# Altium schematic symbol library Orient.SchLib: 98 symbols (part 2 of 5)
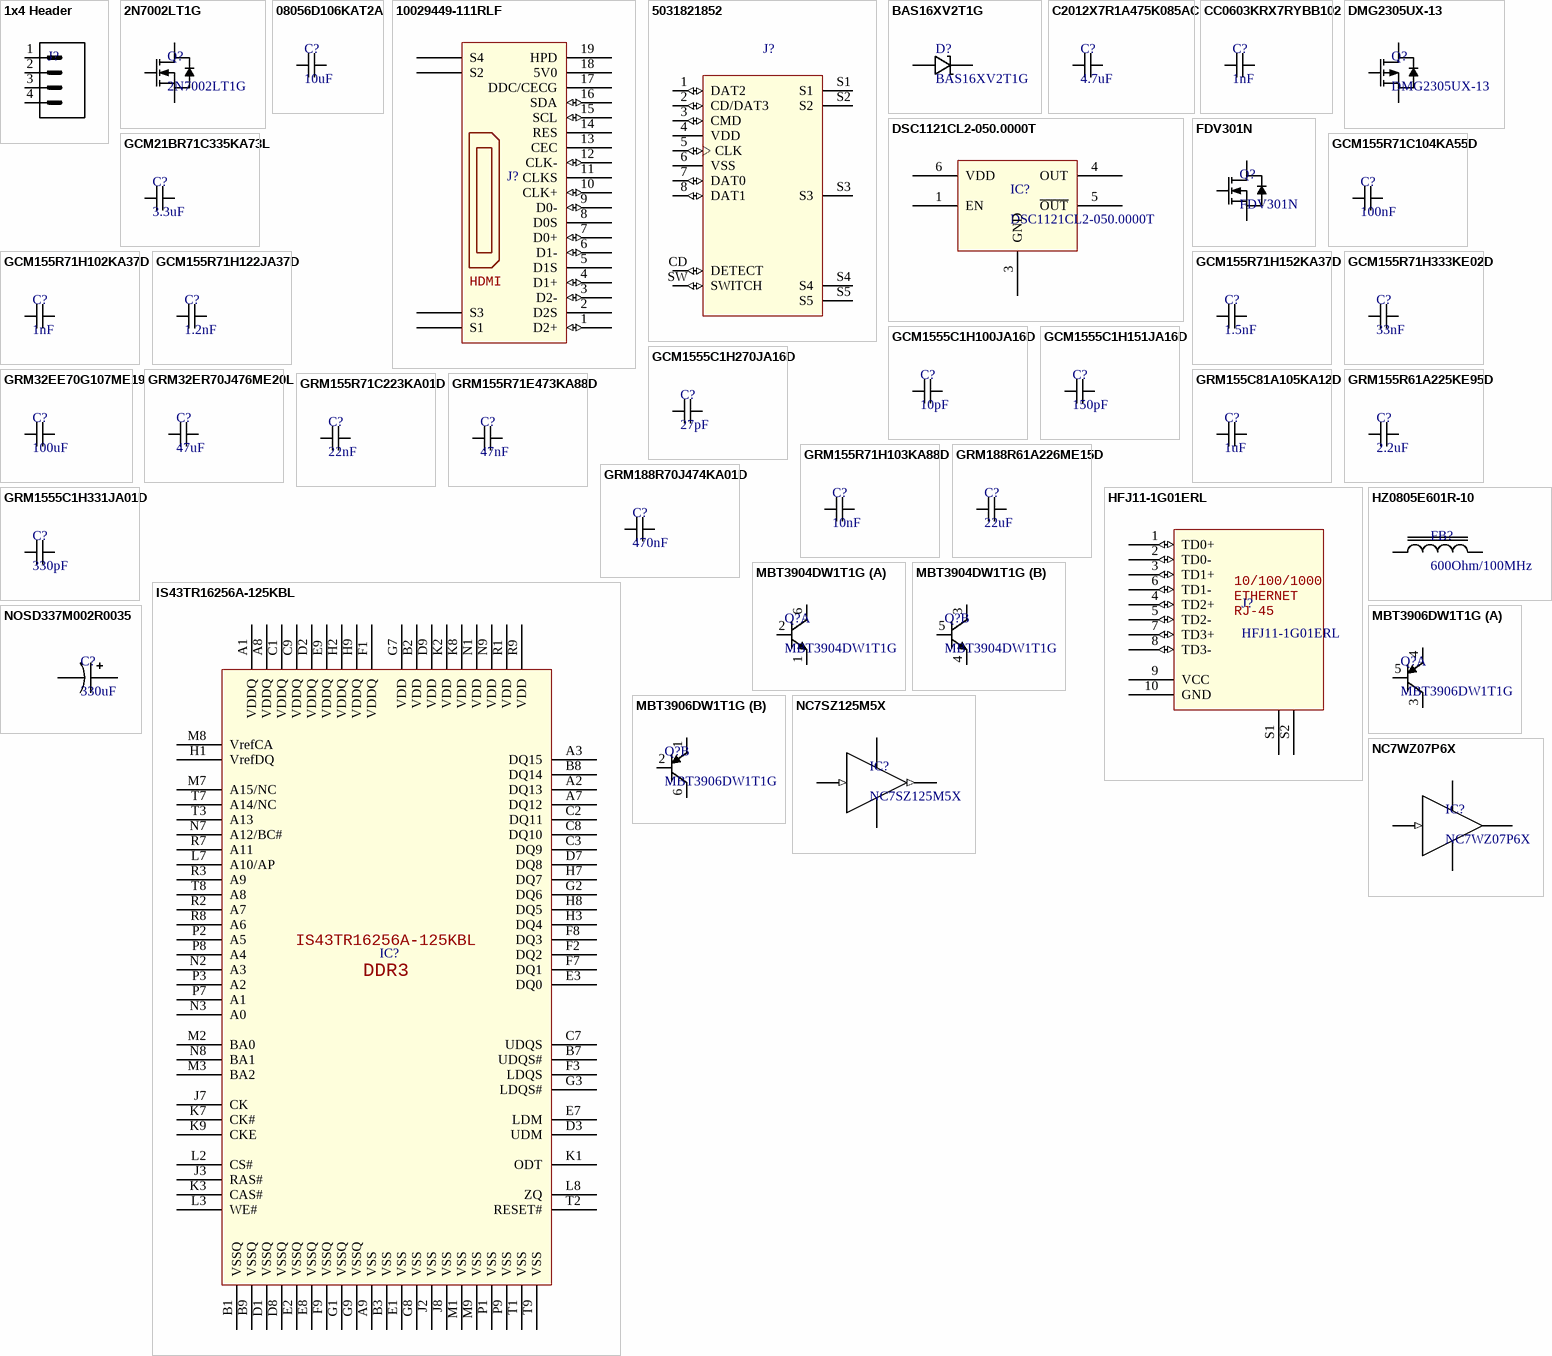
[diagram p4: symbols 1x4 Header to NOSD337M002R0035]

## GRM155R71H103KA88D
designator C?, comment 10nF
MLCC 10nF 0402 SMD; Manufacturer: Murata; Manufacturer Part Number: GRM155R71H103KA88D; Material: Ceramic; Tolerance: 10%; Voltage Rating: 50V; Dielectric: X7R; Voltage: 25V; Supplier 1: Digi-Key; Stock 1: 7384657; Pricing 1: 1=0.10000, 10=0.03800, 100=0.01690, 500=0.01208, 1000=0.00949, 2500=0.00862, 5000=0.00794 (USD); RoHS: Yes; Mount: Surface Mount; Case/Package: 0402; Number of Pins: 2; Case Code (Metric): 1005; Case Code (Imperial): 0402; Min Operating Temperature: -55°C; Max Operating Temperature: 125°C; Packaging: Tape and Reel; Package Quantity: 1; Termination: SMD/SMT; Capacitance: 10nF; Voltage Rating (DC): 50V; Length: 1mm; Height: 0.5mm; Width: 0.02inch; Thickness: 0.022inch; Depth: 0.5mm; Radiation Hardening: No; REACH SVHC: No SVHC; Lead Free: Lead Free; ComponentLink1URL: https://datasheet.ciiva.com/129/product-129810.pdf?src-supplier=Digi-Key; ComponentLink1Description: https://datasheet.ciiva.com/129/product-129810.pdf?src-supplier=Digi-Key; ComponentLink2URL: https://datasheet.ciiva.com/19476/1856433-19476546.pdf?src-supplier=Jameco; ComponentLink2Description: https://datasheet.ciiva.com/19476/1856433-19476546.pdf?src-supplier=Jameco; ComponentLink3URL: https://datasheet.ciiva.com/11786/0900766b80ef921d-11786340.pdf?src-supplier=RSComponents; ComponentLink3Description: https://datasheet.ciiva.com/11786/0900766b80ef921d-11786340.pdf?src-supplier=RSComponents; ComponentLink4URL: https://datasheet.ciiva.com/18100/getdatasheetpartid-27434-18100660.pdf?src-supplier=Verical; ComponentLink4Description: https://datasheet.ciiva.com/18100/getdatasheetpartid-27434-18100660.pdf?src-supplier=Verical; ComponentLink5URL: https://datasheet.ciiva.com/22698/1747449-22698420.pdf?src-supplier=Element14; ComponentLink5Description: https://datasheet.ciiva.com/22698/1747449-22698420.pdf?src-supplier=Element14; ComponentLink6URL: https://datasheet.ciiva.com/29199/454225-da-01-en-vs-kondensator-0402-29199740.pdf?src-supplier=Conrad; ComponentLink6Description: https://datasheet.ciiva.com/29199/454225-da-01-en-vs-kondensator-0402-29199740.pdf?src-supplier=Conrad; ComponentLink7URL: https://datasheet.ciiva.com/129/grm155r71h103ka88-01-129811.pdf?src-supplier=Digi-Key; ComponentLink7Description: https://datasheet.ciiva.com/129/grm155r71h103ka88-01-129811.pdf?src-supplier=Digi-Key; ComponentLink8URL: https://datasheet.ciiva.com/129/grm155r71h103ka88-01-129812.pdf?src-supplier=Digi-Key; ComponentLink8Description: https://datasheet.ciiva.com/129/grm155r71h103ka88-01-129812.pdf?src-supplier=Digi-Key; ComponentLink9URL: https://datasheet.ciiva.com/16495/product-16495290.pdf?src-supplier=Future+Electronics; ComponentLink9Description: https://datasheet.ciiva.com/16495/product-16495290.pdf?src-supplier=Future+Electronics; ComponentLink10URL: https://datasheet.ciiva.com/5410/product-5410990.pdf?src-supplier=Mouser; ComponentLink10Description: https://datasheet.ciiva.com/5410/product-5410990.pdf?src-supplier=Mouser
footprint CAP0402 (Chip Capacitor, 2-Leads, Body 1.00x0.50mm, IPC Medium Density)
pins: 1, 2

## GRM188R61A226ME15D
designator C?, comment 22uF
MLCC 22uF 0603 SMD; Manufacturer: Murata; Manufacturer Part Number: GRM188R61A226ME15D; Material: Ceramic; Tolerance: 20%; Voltage Rating: 10V; Dielectric: X5R; Supplier 1: Digi-Key; Stock 1: 884977; Pricing 1: 1=0.31000, 10=0.21500, 100=0.12160, 500=0.08584, 1000=0.07512 (USD); RoHS: Yes; Mount: Surface Mount; Case/Package: 0603; Weight: 0.000222oz; Case Code (Metric): 1608; Case Code (Imperial): 0603; Min Operating Temperature: -55°C; Max Operating Temperature: 85°C; Capacitance: 22uF; Packaging: Tape and Reel; Termination: SMD/SMT; Voltage Rating (DC): 10V; Package Quantity: 4000; Length: 1.6mm; Height: 0.8mm; Width: 0.8mm; Thickness: 0.039inch; Depth: 0.8mm; REACH SVHC: No SVHC; Lead Free: Lead Free; ComponentLink1URL: https://datasheet.ciiva.com/46444/1769893-46444975.pdf?src-supplier=Element14; ComponentLink1Description: https://datasheet.ciiva.com/46444/1769893-46444975.pdf?src-supplier=Element14
footprint CAP0603 (Chip Capacitor, 2-Leads, Body 1.60x0.80mm, IPC Medium Density)
pins: 1, 2

## GRM188R70J474KA01D
designator C?, comment 470nF
MLCC 470nF 0603 SMD; Manufacturer: Murata; Manufacturer Part Number: GRM188R70J474KA01D; Voltage Rating: 6.3V; Tolerance: 10%; Dielectric: X7R; Supplier 1: Digi-Key; Stock 1: 92537; Pricing 1: 1=0.17000, 10=0.11700, 100=0.05940, 500=0.04066, 1000=0.03597 (USD); RoHS: Yes; Mount: Surface Mount; Case/Package: 0603; Case Code (Metric): 1608; Case Code (Imperial): 0603; Min Operating Temperature: -55°C; Max Operating Temperature: 125°C; Package Quantity: 4000; Capacitance: 470nF; Packaging: Tape and Reel; Voltage Rating (DC): 6.3V; Termination: SMD/SMT; Length: 1.6mm; Height: 0.8mm; Width: 0.031inch; Thickness: 0.035inch; Depth: 0.8mm; Radiation Hardening: No; Lead Free: Lead Free; ComponentLink1URL: https://datasheet.ciiva.com/6264/product-6264161.pdf?src-supplier=Digi-Key; ComponentLink1Description: https://datasheet.ciiva.com/6264/product-6264161.pdf?src-supplier=Digi-Key; ComponentLink2URL: https://datasheet.ciiva.com/11673/product-11673478.pdf?src-supplier=Avnet; ComponentLink2Description: https://datasheet.ciiva.com/11673/product-11673478.pdf?src-supplier=Avnet; ComponentLink3URL: https://datasheet.ciiva.com/6264/partnumbering-e-01-6264159.pdf?src-supplier=Digi-Key; ComponentLink3Description: https://datasheet.ciiva.com/6264/partnumbering-e-01-6264159.pdf?src-supplier=Digi-Key
footprint CAP0603 (Chip Capacitor, 2-Leads, Body 1.60x0.80mm, IPC Medium Density); pin to pad 2>none
pins: 1, 2

## GRM1555C1H331JA01D
designator C?, comment 330pF
MLCC 330pF 0402 SMD; Manufacturer: Murata; Manufacturer Part Number: GRM1555C1H331JA01D; Material: Ceramic; Tolerance: 5%; Dielectric: C0G; Voltage Rating: 50V; Insulation Resistance: 10GR; Temperature Coefficient: 30ppm/°C; Supplier 1: Digi-Key; Stock 1: 1814517; Pricing 1: 1=0.10000, 10=0.07400, 100=0.03500, 500=0.02456, 1000=0.02033, 2500=0.01892, 5000=0.01731 (USD); RoHS: Yes; Mount: Surface Mount; Case/Package: 0402; Number of Pins: 2; Case Code (Metric): 1005; Case Code (Imperial): 0402; Min Operating Temperature: -55°C; Max Operating Temperature: 125°C; Capacitance: 330pF; Package Quantity: 1; Packaging: Tape and Reel; Voltage Rating (DC): 50V; Termination: SMD/SMT; Voltage: 50V; Length: 1mm; Height: 0.5mm; Width: 0.5mm; Thickness: 0.022inch; Depth: 0.5mm; Radiation Hardening: No; REACH SVHC: No SVHC; Lead Free: Lead Free; ComponentLink1URL: https://datasheet.ciiva.com/132/product-132208.pdf?src-supplier=Digi-Key; ComponentLink1Description: https://datasheet.ciiva.com/132/product-132208.pdf?src-supplier=Digi-Key; ComponentLink2URL: https://datasheet.ciiva.com/11787/0900766b807a1cab-11787392.pdf?src-supplier=RSComponents; ComponentLink2Description: https://datasheet.ciiva.com/11787/0900766b807a1cab-11787392.pdf?src-supplier=RSComponents; ComponentLink3URL: https://datasheet.ciiva.com/18184/getdatasheetpartid-153044-18184337.pdf?src-supplier=Verical; ComponentLink3Description: https://datasheet.ciiva.com/18184/getdatasheetpartid-153044-18184337.pdf?src-supplier=Verical; ComponentLink4URL: https://datasheet.ciiva.com/27054/1856089-27054283.pdf?src-supplier=Jameco; ComponentLink4Description: https://datasheet.ciiva.com/27054/1856089-27054283.pdf?src-supplier=Jameco; ComponentLink5URL: https://datasheet.ciiva.com/29199/453809-da-01-en-vs-kondensator-0402-29199950.pdf?src-supplier=Conrad; ComponentLink5Description: https://datasheet.ciiva.com/29199/453809-da-01-en-vs-kondensator-0402-29199950.pdf?src-supplier=Conrad; ComponentLink6URL: https://datasheet.ciiva.com/14116/grmseries-tc-hitype-eng-14116871.pdf?src-supplier=Distrelec; ComponentLink6Description: https://datasheet.ciiva.com/14116/grmseries-tc-hitype-eng-14116871.pdf?src-supplier=Distrelec; ComponentLink7URL: https://datasheet.ciiva.com/7828/4360-7828860.pdf?src-supplier=Element14; ComponentLink7Description: https://datasheet.ciiva.com/7828/4360-7828860.pdf?src-supplier=Element14; ComponentLink8URL: https://datasheet.ciiva.com/7828/4360-7828861.pdf?src-supplier=Element14; ComponentLink8Description: https://datasheet.ciiva.com/7828/4360-7828861.pdf?src-supplier=Element14; ComponentLink9URL: https://datasheet.ciiva.com/132/partnumbering-e-01-132206.pdf?src-supplier=Digi-Key; ComponentLink9Description: https://datasheet.ciiva.com/132/partnumbering-e-01-132206.pdf?src-supplier=Digi-Key; ComponentLink10URL: https://datasheet.ciiva.com/132/partnumbering-e-01-132207.pdf?src-supplier=Digi-Key; ComponentLink10Description: https://datasheet.ciiva.com/132/partnumbering-e-01-132207.pdf?src-supplier=Digi-Key
footprint CAP0402 (Chip Capacitor, 2-Leads, Body 1.00x0.50mm, IPC Medium Density)
pins: 1, 2

## HFJ11-1G01ERL
designator J?
Ethernet Jack; Manufacturer: HALO; Number of Contacts: 8; Number of Ports: 1; Gender: Female; Pitch: 2.54mm; Supplier 1: Avnet; Manufacturer Part Number: HFJ11-1G01ERL; Stock 1: 332; Pricing 1: 1=3.29546, 10=3.24930, 25=3.20442, 50=3.16076, 100=3.06878 (USD); RoHS: Yes; Mount: Through Hole; Case/Package: Module; Min Operating Temperature: 0°C; Max Operating Temperature: 70°C; Termination: Solder; Orientation: Right Angle; Packaging: Rail/Tube; Number of Positions Loaded: 8; Length: 15.88mm; Width: 15.88mm; Depth: 21.59mm; Radiation Hardening: No; Lead Free: Lead Free; ComponentLink1URL: https://datasheet.ciiva.com/11767/0900766b812ae499-11767976.pdf?src-supplier=RSComponents; ComponentLink1Description: https://datasheet.ciiva.com/11767/0900766b812ae499-11767976.pdf?src-supplier=RSComponents; ComponentLink2URL: https://datasheet.ciiva.com/16649/fastjack-gigabit-16649403.pdf?src-supplier=Avnet+Europe; ComponentLink2Description: https://datasheet.ciiva.com/16649/fastjack-gigabit-16649403.pdf?src-supplier=Avnet+Europe; ComponentLink3URL: https://datasheet.ciiva.com/3139/fastjack-gigabit-3139132.pdf?src-supplier=Avnet; ComponentLink3Description: https://datasheet.ciiva.com/3139/fastjack-gigabit-3139132.pdf?src-supplier=Avnet; ComponentLink4URL: https://datasheet.ciiva.com/16287/fastjack-gigabit-16287901.pdf?src-supplier=Future+Electronics; ComponentLink4Description: https://datasheet.ciiva.com/16287/fastjack-gigabit-16287901.pdf?src-supplier=Future+Electronics
footprint HFJ11-1G01ERL
pins: 1 TD0+ (io), 2 TD0- (io), 3 TD1+ (io), 4 TD2+ (io), 5 TD2- (io), 6 TD1- (io), 7 TD3+ (io), 8 TD3- (io), 9 VCC, 10 GND, S1 SHD1, S2 SHD2
text: 10/100/1000; ETHERNET; RJ-45

## HZ0805E601R-10
designator FB?, comment 600Ohm/100MHz
Ferrite Bead 600Ohm/100MHz 0805 SMD; Manufacturer: Laird; Manufacturer Part Number: HZ0805E601R-10; Current Rating: 500mA; Impedance: 600R; Number of Lines: 1; DC Resistance (DCR): 300mR; Test Frequency: 100MHz; Supplier 1: Digi-Key; Stock 1: 4500868; Pricing 1: 1=0.10000, 10=0.04700, 25=0.04160, 50=0.03800, 100=0.03420, 250=0.02504, 500=0.01822, 1000=0.01784 (USD); RoHS: Yes; Mount: Surface Mount; Case/Package: 0805; Weight: 0.00392oz; Case Code (Metric): 2012; Case Code (Imperial): 0805; Material: Ferrite; Contact Plating: Tin,Matte; Core Material: Ferrite; Min Operating Temperature: -40°C; Max Operating Temperature: 125°C; Package Quantity: 1; Packaging: Tape and Reel; Max Current Rating: 500mA; Max DC Current: 500mA; Termination: SMD/SMT; Frequency: 100MHz; Length: 2mm; Height: 1.25mm; Width: 0.049inch; Depth: 1.45mm; REACH SVHC: Unknown; Lead Free: Lead Free; ComponentLink1URL: https://datasheet.ciiva.com/22622/1685710-22622833.pdf?src-supplier=Element14; ComponentLink1Description: https://datasheet.ciiva.com/22622/1685710-22622833.pdf?src-supplier=Element14; ComponentLink2URL: https://datasheet.ciiva.com/1013/hz0805e601r-10-1013170.pdf?src-supplier=Digi-Key; ComponentLink2Description: https://datasheet.ciiva.com/1013/hz0805e601r-10-1013170.pdf?src-supplier=Digi-Key; ComponentLink3URL: https://datasheet.ciiva.com/8512/hz0805e601r-10-a-vp-8512772.pdf?src-supplier=Avnet; ComponentLink3Description: https://datasheet.ciiva.com/8512/hz0805e601r-10-a-vp-8512772.pdf?src-supplier=Avnet; ComponentLink4URL: https://datasheet.ciiva.com/16714/70065439-16714006.pdf?src-supplier=Allied+Electronics; ComponentLink4Description: https://datasheet.ciiva.com/16714/70065439-16714006.pdf?src-supplier=Allied+Electronics
footprint FB0805 (Chip, 2-Leads, Body 2.2x1.45mm)
pins: 1, 2

## IS43TR16256A-125KBL
designator IC?
DRAM 4G, 1.5V, 1600Mhz DDR3 SDRAM; Manufacturer: ISSI; Manufacturer Part Number: IS43TR16256A-125KBL; Max Supply Voltage: 1.575V; Min Supply Voltage: 1.425V; Data Bus Width: 16b; Memory Size: 4Gb; Memory Type: RAM,DDR3 SDRAM; Frequency: 800MHz; Interface: Parallel; Max Supply Current: 290mA; Address Bus Width: 18b; Access Time: 20ns; Nominal Supply Current: 230mA; Supplier 1: Mouser; Stock 1: 380; Pricing 1: 1=8.69000, 10=8.00000, 25=7.81000, 50=7.81000, 100=7.00000, 250=6.79000, 500=6.46000, 1000=6.46000, 10000=6.46000 (USD); RoHS: Yes; Mount: Surface Mount; Case/Package: TFBGA; Number of Pins: 96; Min Operating Temperature: 0°C; Max Operating Temperature: 95°C; Packaging: Tray; Package Quantity: 190; Max Frequency: 800MHz; Operating Supply Voltage: 1.5V; Density: 4Gb; ComponentLink2URL: http://www.mouser.com/ds/2/198/43-46TR16256A-85120AL-268426.pdf?src-supplier=Mouser; ComponentLink2Description: http://www.mouser.com/ds/2/198/43-46TR16256A-85120AL-268426.pdf?src-supplier=Mouser; ComponentLink3URL: http://www.issi.com/WW/pdf/43-46TR16256A-85120AL.pdf?src-supplier=Digi-Key; ComponentLink3Description: http://www.issi.com/WW/pdf/43-46TR16256A-85120AL.pdf?src-supplier=Digi-Key
footprint BGA96 (BGA, 96-Leads, Body 9.00x13.00mmx1.20mm, Pitch 0.80mm)
pins: A1 VDDQ, A2 DQ13, A3 DQ15, A7 DQ12, A8 VDDQ, A9 VSS, B1 VSSQ, B2 VDD, B3 VSS, B7 UDQS#, B8 DQ14, B9 VSSQ, C1 VDDQ, C2 DQ11, C3 DQ9, C7 UDQS, C8 DQ10, C9 VDDQ, D1 VSSQ, D2 VDDQ, D3 UDM, D7 DQ8, D8 VSSQ, D9 VDD, E1 VSS, E2 VSSQ, E3 DQ0, E7 LDM, E8 VSSQ, E9 VDDQ, F1 VDDQ, F2 DQ2, F3 LDQS, F7 DQ1, F8 DQ3, F9 VSSQ, G1 VSSQ, G2 DQ6, G3 LDQS#, G7 VDD, G8 VSS, G9 VSSQ, H1 VrefDQ, H2 VDDQ, H3 DQ4, H7 DQ7, H8 DQ5, H9 VDDQ, J2 VSS, J3 RAS#, J7 CK, J8 VSS, K1 ODT, K2 VDD, K3 CAS#, K7 CK#, K8 VDD, K9 CKE, L2 CS#, L3 WE#, L7 A10/AP, L8 ZQ, M1 VSS, M2 BA0, M3 BA2, M7 A15/NC, M8 VrefCA, M9 VSS, N1 VDD, N2 A3, N3 A0, N7 A12/BC#, N8 BA1, N9 VDD, P1 VSS, P2 A5, P3 A2, P7 A1, P8 A4, P9 VSS, R1 VDD, R2 A7, R3 A9, R7 A11, R8 A6, R9 VDD, T1 VSS, T2 RESET#, T3 A13, T7 A14/NC, T8 A8, T9 VSS
text: DDR3

## MBT3904DW1T1G
designator Q?
Dual BJT NPN Transistor; Manufacturer: On Semiconductor; Packing: Tape and Reel; Polarity: Dual NPN; fT Min (MHz): 300; IC Continuous (A): 0.2; DatasheetVersion: Rev. 9; ComponentLink2Description: Datasheet; Mounting Technology: Surface Mount; PackageReference: SOT-363-6-419B-02_W; RoHS: TRUE; ComponentLink1Description: Manufacturer URL; ComponentLink2URL: http://www.onsemi.com/pub_link/Collateral/MBT3904DW1T1-D.PDF; PackageVersion: Rev. W, 01/2006; PartNumber: MBT3904DW1T1G; ComponentLink1URL: http://www.onsemi.com/; ComponentLink3URL: http://www.onsemi.com/pub_link/Collateral/NTJD4001N-D.PDF; ComponentLink3Description: Package Specification; PackageDescription: 6-Pin Small Outline Transistor, Body 2 x 1.25 mm, Pitch 0.65 mm
footprint SOT-363 (SOT23, 6-Leads, Body 2.00x2.10mm, Pitch 0.65mm, IPC Medium Density)
part A pins: 1 E, 2 B, 6 C
part B pins: 3 C, 4 E, 5 B

## MBT3906DW1T1G
designator Q?
Dual BJT PNP Transistor; Manufacturer: On Semiconductor; IC Continuous (A): -0.2; Polarity: Dual PNP; Packing: Tape and Reel; fT Min (MHz): 250; PackageReference: SOT-363-6-419B-02; PackageVersion: Rev. Y, 12/2012; Mounting Technology: Surface Mount; RoHS: TRUE; ComponentLink2URL: http://www.onsemi.com/pub_link/Collateral/MBT3906DW1T1-D.PDF; DatasheetVersion: Rev. 5; ComponentLink3URL: http://www.onsemi.cn/pub_link/Collateral/419B-02.PDF; PartNumber: MBT3906DW1T1G; ComponentLink3Description: Package Specification; ComponentLink2Description: Datasheet; PackageDescription: 6-Pin Small Outline Transistor, Body 2 x 1.25 mm, Pitch 0.65 mm; ComponentLink1URL: http://www.onsemi.com/; ComponentLink1Description: Manufacturer URL
footprint SOT-363 (SOT23, 6-Leads, Body 2.00x2.10mm, Pitch 0.65mm, IPC Medium Density)
part A pins: 3 C, 4 E, 5 B
part B pins: 1 E, 2 B, 6 C

## NC7SZ125M5X
designator IC?
Non-inverting buffer, 3-State; Manufacturer: ON Semiconductor / Fairchild; Max Power Dissipation: 200mW; Max Supply Voltage: 5.5V; Min Supply Voltage: 1.65V; Propagation Delay: 5ns; Logic Function: Buffer,Inverting; Low Level Output Current: 32mA; Number of Input Lines: 1; High Level Output Current: -32mA; Turn-On Delay Time: 5.7ns; Quiescent Current: 2uA; Voltage: 5V; Supplier 1: Digi-Key; Manufacturer Part Number: NC7SZ125M5X; Stock 1: 87014; Pricing 1: 1=0.47000, 10=0.34700, 100=0.19640, 500=0.13008, 1000=0.09973 (USD); RoHS: Yes; Mount: Surface Mount; Case/Package: SOT-23; Number of Pins: 5; Contact Plating: Tin,Matte; Min Operating Temperature: -40°C; Max Operating Temperature: 85°C; Packaging: Tape and Reel; Number of Output Lines: 1; Polarity: Non-Inverting; Package Quantity: 3000; Number of Elements: 1; Number of Channels: 1; Number of Inputs: 1; Number of Outputs: 1; Number of Bits per Element: 1; Number of Bits: 1; Length: 3mm; Height: 1.3mm; Width: 1.7mm; Radiation Hardening: No; REACH SVHC: No SVHC; Lead Free: Lead Free; ComponentLink1URL: https://datasheet.ciiva.com/1832/nc7sz125-1832245.pdf?src-supplier=Digi-Key; ComponentLink1Description: https://datasheet.ciiva.com/1832/nc7sz125-1832245.pdf?src-supplier=Digi-Key; ComponentLink2URL: https://datasheet.ciiva.com/46415/1793263-46415383.pdf?src-supplier=Element14; ComponentLink2Description: https://datasheet.ciiva.com/46415/1793263-46415383.pdf?src-supplier=Element14; ComponentLink3URL: https://datasheet.ciiva.com/28416/1793263-28416537.pdf?src-supplier=Element14; ComponentLink3Description: https://datasheet.ciiva.com/28416/1793263-28416537.pdf?src-supplier=Element14; ComponentLink4URL: https://datasheet.ciiva.com/26096/nc7sz125-26096491.pdf?src-supplier=Avnet+Europe; ComponentLink4Description: https://datasheet.ciiva.com/26096/nc7sz125-26096491.pdf?src-supplier=Avnet+Europe; ComponentLink5URL: https://datasheet.ciiva.com/1832/nc7sz125-1832243.pdf?src-supplier=Digi-Key; ComponentLink5Description: https://datasheet.ciiva.com/1832/nc7sz125-1832243.pdf?src-supplier=Digi-Key; ComponentLink6URL: https://datasheet.ciiva.com/1832/nc7sz125-1832244.pdf?src-supplier=Digi-Key; ComponentLink6Description: https://datasheet.ciiva.com/1832/nc7sz125-1832244.pdf?src-supplier=Digi-Key; ComponentLink7URL: https://datasheet.ciiva.com/8260/nc7sz125-8260055.pdf?src-supplier=Avnet; ComponentLink7Description: https://datasheet.ciiva.com/8260/nc7sz125-8260055.pdf?src-supplier=Avnet
pins: 2 GND, 3 (in), 4 (out), 5 VCC

## NC7WZ07P6X
designator IC?
Non-inverting buffer, open drain; Manufacturer: ON Semiconductor / Fairchild; Logic Function: Buffer,Inverting; Min Supply Voltage: 1.65V; Max Supply Voltage: 5.5V; Max Power Dissipation: 180mW; Low Level Output Current: 32mA; Number of Input Lines: 2; Propagation Delay: 12.6ns; Number of Bits per Element: 1; Quiescent Current: 1uA; Turn-On Delay Time: 11.5ns; Max Supply Current: 24mA; Supplier 1: Digi-Key; Manufacturer Part Number: NC7WZ07P6X; Stock 1: 111727; Pricing 1: 1=0.37000, 10=0.27800, 100=0.15770, 500=0.10444, 1000=0.08006 (USD); RoHS: Yes; Mount: Surface Mount; Case/Package: SC; Number of Pins: 6; Weight: 0.028g; Min Operating Temperature: -40°C; Max Operating Temperature: 85°C; Packaging: Tape and Reel; Number of Output Lines: 2; Polarity: Non-Inverting; Number of Elements: 2; Number of Channels: 2; Number of Inputs: 2; Number of Outputs: 2; Package Quantity: 1; High Level Output Current: 32mA; Termination: SMD/SMT; Number of Circuits: 2; Number of Bits: 2; Length: 2mm; Height: 1mm; Width: 1.25mm; Radiation Hardening: No; REACH SVHC: No SVHC; Lead Free: Lead Free; ComponentLink1URL: https://datasheet.ciiva.com/15094/getdatasheetpartid-110382-15094696.pdf?src-supplier=Verical; ComponentLink1Description: https://datasheet.ciiva.com/15094/getdatasheetpartid-110382-15094696.pdf?src-supplier=Verical; ComponentLink2URL: https://datasheet.ciiva.com/34303/1925793-34303258.pdf?src-supplier=Jameco; ComponentLink2Description: https://datasheet.ciiva.com/34303/1925793-34303258.pdf?src-supplier=Jameco; ComponentLink3URL: https://datasheet.ciiva.com/7971/1725667-7971034.pdf?src-supplier=Element14; ComponentLink3Description: https://datasheet.ciiva.com/7971/1725667-7971034.pdf?src-supplier=Element14; ComponentLink4URL: https://datasheet.ciiva.com/1832/nc7wz07-1832235.pdf?src-supplier=Digi-Key; ComponentLink4Description: https://datasheet.ciiva.com/1832/nc7wz07-1832235.pdf?src-supplier=Digi-Key; ComponentLink5URL: https://datasheet.ciiva.com/7971/1725667-7971035.pdf?src-supplier=Element14; ComponentLink5Description: https://datasheet.ciiva.com/7971/1725667-7971035.pdf?src-supplier=Element14; ComponentLink6URL: https://datasheet.ciiva.com/28416/1725667-28416555.pdf?src-supplier=Element14; ComponentLink6Description: https://datasheet.ciiva.com/28416/1725667-28416555.pdf?src-supplier=Element14; ComponentLink7URL: https://datasheet.ciiva.com/1832/nc7wz07-1832236.pdf?src-supplier=Digi-Key; ComponentLink7Description: https://datasheet.ciiva.com/1832/nc7wz07-1832236.pdf?src-supplier=Digi-Key; ComponentLink8URL: https://datasheet.ciiva.com/26248/nc7wz07-26248300.pdf?src-supplier=Avnet+Europe; ComponentLink8Description: https://datasheet.ciiva.com/26248/nc7wz07-26248300.pdf?src-supplier=Avnet+Europe
footprint SC-88 (SOT23, 6-Leads, Body 2.00x2.10mm, Pitch 0.65mm, IPC Medium Density)
pins: 2 GND, 3 (in), 4, 5 VCC

## NOSD337M002R0035
designator C?, comment 330uF
Niobium Oxide Cap 330uF KEMET-D SMD; Manufacturer: Kyocera AVX; Manufacturer Part Number: NOSD337M002R0035; Dielectric Material: Tantalum; Tolerance: 20%; Voltage Rating: 2.5V; ESR (Equivalent Series Resistance): 35mR; Ripple Current: 2.268A; Resistance: 0.035R; Leakage Current: 16.5uA; Dissipation Factor: 6%; Supplier 1: Mouser; Stock 1: 336; Pricing 1: 1=11.56000, 10=11.56000, 50=10.46000, 100=9.15000, 500=3.39000, 1000=3.39000, 10000=3.39000 (USD); RoHS: Yes; Mount: Surface Mount; Case/Package: 2917; Number of Pins: 2; Case Code (Metric): 7343; Case Code (Imperial): 2917; Min Operating Temperature: -55°C; Max Operating Temperature: 125°C; Capacitance: 330uF; Packaging: Tape and Reel; Package Quantity: 500; Termination: SMD/SMT; Voltage Rating (DC): 2.5V; Length: 7.3mm; Height: 3.1mm; Width: 4.3mm; Height - Seated (Max): 0.122inch; Depth: 4.3mm; Radiation Hardening: No; REACH SVHC: No SVHC; ComponentLink1URL: https://datasheet.ciiva.com/1469/84582-1469766.pdf?src-supplier=Farnell; ComponentLink1Description: https://datasheet.ciiva.com/1469/84582-1469766.pdf?src-supplier=Farnell; ComponentLink2URL: https://datasheet.ciiva.com/257/nos-257357.pdf?src-supplier=Digi-Key; ComponentLink2Description: https://datasheet.ciiva.com/257/nos-257357.pdf?src-supplier=Digi-Key; ComponentLink3URL: https://datasheet.ciiva.com/1460/84582-1460413.pdf?src-supplier=Element14; ComponentLink3Description: https://datasheet.ciiva.com/1460/84582-1460413.pdf?src-supplier=Element14; ComponentLink4URL: https://datasheet.ciiva.com/1469/84582-1469767.pdf?src-supplier=Farnell; ComponentLink4Description: https://datasheet.ciiva.com/1469/84582-1469767.pdf?src-supplier=Farnell; ComponentLink5URL: https://datasheet.ciiva.com/1460/84582-1460412.pdf?src-supplier=Element14; ComponentLink5Description: https://datasheet.ciiva.com/1460/84582-1460412.pdf?src-supplier=Element14
footprint KEMET-D (Molded Capacitor, 2-Leads, Body 7.30x4.30mm, IPC Medium Density)
pins: 1, 2

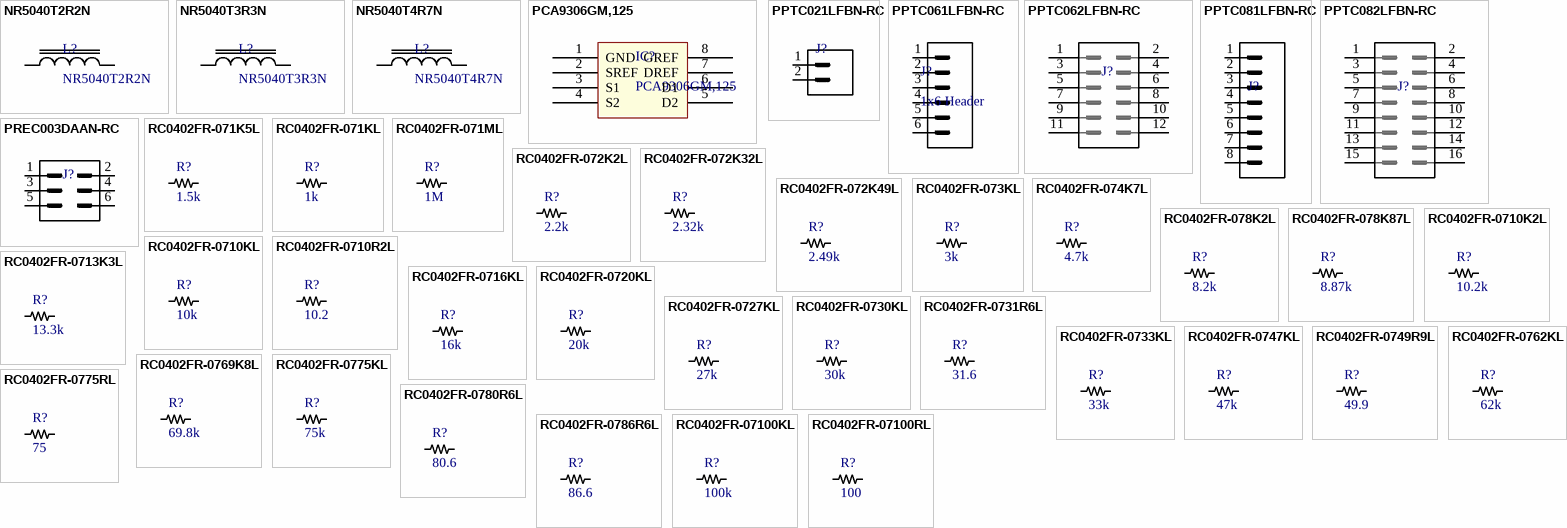
[diagram p1: symbols NR5040T2R2N to RC0402FR-07100RL]

## NR5040T2R2N
designator L?
Inductor 2.2uH; Manufacturer: Taiyo Yuden; Core Material: Ferrite; Self Resonant Frequency: 42MHz; Current Rating: 3.5A; Tolerance: 30%; Shielding: Shielded; DC Resistance (DCR): 28.6mR; Test Frequency: 100kHz; Max DC Current: 4.6A; Supplier 1: Digi-Key; Manufacturer Part Number: NR5040T2R2N; Stock 1: 15064; Pricing 1: 1=0.45000, 10=0.39000, 100=0.27890, 500=0.23426 (USD); RoHS: Yes; Mount: Surface Mount; Case/Package: Nonstandard; Number of Pins: 2; Min Operating Temperature: -25°C; Max Operating Temperature: 120°C; Packaging: Tape and Reel; Package Quantity: 1500; Composition: Wirewound; Inductance: 2.2uH; Termination: SMD/SMT; Inductance Tolerance: 30%; Saturation Current: 4.6A; RMS Current (Irms): 3.5A; Length: 0.193inch; Height: 4mm; Width: 0.193inch; Height - Seated (Max): 0.161inch; Depth: 5.1mm; Radiation Hardening: No; REACH SVHC: Unknown; Halogen Free: Halogen Free; ComponentLink1URL: https://datasheet.ciiva.com/8502/nr5040t2r2n-ss-8502898.pdf?src-supplier=Avnet; ComponentLink1Description: https://datasheet.ciiva.com/8502/nr5040t2r2n-ss-8502898.pdf?src-supplier=Avnet; ComponentLink2URL: https://datasheet.ciiva.com/6689/wound04-e-6689260.pdf?src-supplier=Digi-Key; ComponentLink2Description: https://datasheet.ciiva.com/6689/wound04-e-6689260.pdf?src-supplier=Digi-Key; ComponentLink3URL: https://datasheet.ciiva.com/6689/wound04-e-6689263.pdf?src-supplier=Digi-Key; ComponentLink3Description: https://datasheet.ciiva.com/6689/wound04-e-6689263.pdf?src-supplier=Digi-Key; ComponentLink4URL: https://datasheet.ciiva.com/6689/wound04-e-6689257.pdf?src-supplier=Digi-Key; ComponentLink4Description: https://datasheet.ciiva.com/6689/wound04-e-6689257.pdf?src-supplier=Digi-Key
footprint NR5040 (Precision Wire Wound Inductor, 2-Leads, Body 4.90x4.90mm, IPC Medium Density)
pins: 1, 2

## NR5040T3R3N
designator L?
Inductor 3.3uH; Manufacturer: Taiyo Yuden; Core Material: Ferrite; Self Resonant Frequency: 32MHz; Tolerance: 30%; Current Rating: 3.3A; Saturation Current: 3.8A; Shielding: Shielded; DC Resistance (DCR): 35.1mR; Test Frequency: 100kHz; Supplier 1: Digi-Key; Manufacturer Part Number: NR5040T3R3N; Stock 1: 15388; Pricing 1: 1=0.45000, 10=0.39000, 100=0.27890, 500=0.23426 (USD); RoHS: Yes; Mount: Surface Mount; Case/Package: Nonstandard; Number of Pins: 2; Min Operating Temperature: -25°C; Max Operating Temperature: 120°C; Packaging: Tape and Reel; Inductance: 3.3uH; Package Quantity: 1500; Inductance Tolerance: 30%; Max DC Current: 3.8A; Termination: SMD/SMT; Composition: Wirewound; RMS Current (Irms): 3.3A; Length: 0.193inch; Height: 4mm; Width: 4.9mm; Height - Seated (Max): 0.161inch; Halogen Free: Halogen Free; REACH SVHC: Unknown; ComponentLink1URL: https://datasheet.ciiva.com/1044/wound04-e-1044105.pdf?src-supplier=Digi-Key; ComponentLink1Description: https://datasheet.ciiva.com/1044/wound04-e-1044105.pdf?src-supplier=Digi-Key; ComponentLink2URL: https://datasheet.ciiva.com/1044/wound04-e-1044103.pdf?src-supplier=Digi-Key; ComponentLink2Description: https://datasheet.ciiva.com/1044/wound04-e-1044103.pdf?src-supplier=Digi-Key; ComponentLink3URL: https://datasheet.ciiva.com/1044/wound04-e-1044104.pdf?src-supplier=Digi-Key; ComponentLink3Description: https://datasheet.ciiva.com/1044/wound04-e-1044104.pdf?src-supplier=Digi-Key
footprint NR5040 (Precision Wire Wound Inductor, 2-Leads, Body 4.90x4.90mm, IPC Medium Density)
pins: 1, 2

## NR5040T4R7N
designator L?
Inductor 4.7uH; Manufacturer: Taiyo Yuden; Core Material: Ferrite; Self Resonant Frequency: 28MHz; Inductance Tolerance: 30%; Current Rating: 3.1A; Saturation Current: 3.3A; Shielding: Shielded; DC Resistance (DCR): 37.7mR; Test Frequency: 100kHz; Supplier 1: Digi-Key; Manufacturer Part Number: NR5040T4R7N; Stock 1: 17504; Pricing 1: 1=0.38000, 10=0.34000, 100=0.23410, 500=0.20000 (USD); RoHS: Yes; Mount: Surface Mount; Case/Package: Nonstandard; Number of Pins: 2; Min Operating Temperature: -25°C; Max Operating Temperature: 120°C; Packaging: Tape and Reel; Package Quantity: 1500; Tolerance: 30%; Inductance: 4.7uH; Max DC Current: 3.3A; Termination: SMD/SMT; Composition: Wirewound; RMS Current (Irms): 3.1A; Length: 0.193inch; Height: 4mm; Width: 4.9mm; Height - Seated (Max): 0.161inch; Depth: 5.1mm; Radiation Hardening: No; REACH SVHC: Unknown; Halogen Free: Halogen Free; ComponentLink1URL: https://datasheet.ciiva.com/8502/nr5040t4r7n-ss-8502907.pdf?src-supplier=Avnet; ComponentLink1Description: https://datasheet.ciiva.com/8502/nr5040t4r7n-ss-8502907.pdf?src-supplier=Avnet; ComponentLink2URL: https://datasheet.ciiva.com/4960/wound04-e-4960327.pdf?src-supplier=Mouser; ComponentLink2Description: https://datasheet.ciiva.com/4960/wound04-e-4960327.pdf?src-supplier=Mouser; ComponentLink3URL: https://datasheet.ciiva.com/1044/wound04-e-1044091.pdf?src-supplier=Digi-Key; ComponentLink3Description: https://datasheet.ciiva.com/1044/wound04-e-1044091.pdf?src-supplier=Digi-Key; ComponentLink4URL: https://datasheet.ciiva.com/1044/wound04-e-1044092.pdf?src-supplier=Digi-Key; ComponentLink4Description: https://datasheet.ciiva.com/1044/wound04-e-1044092.pdf?src-supplier=Digi-Key; ComponentLink5URL: https://datasheet.ciiva.com/1044/wound04-e-1044093.pdf?src-supplier=Digi-Key; ComponentLink5Description: https://datasheet.ciiva.com/1044/wound04-e-1044093.pdf?src-supplier=Digi-Key
footprint NR5040 (Precision Wire Wound Inductor, 2-Leads, Body 4.90x4.90mm, IPC Medium Density)
pins: 1, 2

## PCA9306GM,125
designator IC?
Low Voltage Translator, Bidirectional; Manufacturer: NXP Semiconductors; Max Supply Voltage: 5V; Min Supply Voltage: 0uV; Number of Channels: 2; Propagation Delay: 3.3ns; Supplier 1: Digi-Key; Manufacturer Part Number: PCA9306GM,125; Stock 1: 9822; Pricing 1: 1=0.74000, 10=0.65200, 100=0.50010, 500=0.39532, 1000=0.31626 (USD); RoHS: Yes; Mount: Surface Mount; Case/Package: QFN; Number of Pins: 8; Contact Plating: Gold; Min Operating Temperature: -40°C; Max Operating Temperature: 85°C; Packaging: Tape and Reel; Package Quantity: 1; Logic Function: Translator; Number of Bits: 2; Turn-On Delay Time: 3.3ns; Output Type: Voltage; Length: 1.65mm; Height: 0.45mm; Width: 1.65mm; Radiation Hardening: No; Lead Free: Lead Free; ComponentLink1URL: https://datasheet.ciiva.com/1898/pca9306-1898993.pdf?src-supplier=Digi-Key; ComponentLink1Description: https://datasheet.ciiva.com/1898/pca9306-1898993.pdf?src-supplier=Digi-Key; ComponentLink2URL: https://datasheet.ciiva.com/1898/pca9306-1898994.pdf?src-supplier=Digi-Key; ComponentLink2Description: https://datasheet.ciiva.com/1898/pca9306-1898994.pdf?src-supplier=Digi-Key; ComponentLink3URL: https://datasheet.ciiva.com/1898/pca9306-1898995.pdf?src-supplier=Digi-Key; ComponentLink3Description: https://datasheet.ciiva.com/1898/pca9306-1898995.pdf?src-supplier=Digi-Key; ComponentLink4URL: https://datasheet.ciiva.com/16209/pca9306-16209430.pdf?src-supplier=Future+Electronics; ComponentLink4Description: https://datasheet.ciiva.com/16209/pca9306-16209430.pdf?src-supplier=Future+Electronics; ComponentLink5URL: https://datasheet.ciiva.com/8243/pca9306-8243976.pdf?src-supplier=Avnet; ComponentLink5Description: https://datasheet.ciiva.com/8243/pca9306-8243976.pdf?src-supplier=Avnet; ComponentLink6URL: https://datasheet.ciiva.com/16671/pca9306-16671482.pdf?src-supplier=Avnet+Europe; ComponentLink6Description: https://datasheet.ciiva.com/16671/pca9306-16671482.pdf?src-supplier=Avnet+Europe
footprint XQFN8 (QFN, 8-Leads, Body 1.60x1.60mm, Pitch 0.55mm/0.50mm, IPC Medium Density)
pins: 1 GND, 2 SREF, 3 S1, 4 S2, 5 D2, 6 D1, 7 DREF, 8 GREF

## PPTC021LFBN-RC
designator J?, comment 1x2 Header  (value not drawn)
Header Female 1x2 2.54mm; Manufacturer: Sullins; Manufacturer Part Number: PPTC021LFBN-RC; Number of Positions: 2; Connector Type: Header,Socket; Pitch: 0.1inch; Supplier 1: Digi-Key; Stock 1: 29257; Pricing 1: 1=0.32000, 10=0.30600, 100=0.21390, 500=0.18334, 1000=0.15278, 5000=0.13095, 10000=0.12610 (USD); RoHS: Yes; Mount: Through Hole; Color: Black; Contact Plating: Tin; Contact Material: Bronze; Housing Material: Plastic; Package Quantity: 1000; Number of Rows: 1; Packaging: Bulk; Termination: Solder; Length: 5.58mm; Height: 8.5mm; Width: 2.5mm; Lead Free: Lead Free; ComponentLink1URL: https://media.digikey.com/pdf/Data%20Sheets/Sullins%20PDFs/Female_Headers.100_DS.pdf?src-supplier=Digi-Key; ComponentLink1Description: https://media.digikey.com/pdf/Data%20Sheets/Sullins%20PDFs/Female_Headers.100_DS.pdf?src-supplier=Digi-Key; ComponentLink2URL: http://www.sullinscorp.com/catalogs/78_Page80-81_HEADER_.100_2.54mm_FEMALE.pdf?src-supplier=Future+Electronics; ComponentLink2Description: http://www.sullinscorp.com/catalogs/78_Page80-81_HEADER_.100_2.54mm_FEMALE.pdf?src-supplier=Future+Electronics
footprint HEADER_1X2
pins: 1, 2

## PPTC061LFBN-RC
designator J?, comment 1x6 Header
Header Female 1x6 2.54mm; Manufacturer: Sullins; Manufacturer Part Number: PPTC061LFBN-RC; Number of Positions: 6; Connector Type: Header,Socket; Pitch: 0.1inch; Supplier 1: Digi-Key; Stock 1: 13781; Pricing 1: 1=0.52000, 10=0.48300, 100=0.37050, 500=0.32220, 1000=0.26582, 5000=0.23360, 10000=0.23270 (USD); RoHS: Yes; Mount: Through Hole; Color: Black; Contact Plating: Tin; Contact Material: Bronze; Housing Material: Plastic; Package Quantity: 1000; Number of Rows: 1; Packaging: Bulk; Termination: Solder; Length: 15.7mm; Height: 8.5mm; Width: 2.5mm; Lead Free: Lead Free; ComponentLink1URL: https://media.digikey.com/pdf/Data%20Sheets/Sullins%20PDFs/Female_Headers.100_DS.pdf?src-supplier=Digi-Key; ComponentLink1Description: https://media.digikey.com/pdf/Data%20Sheets/Sullins%20PDFs/Female_Headers.100_DS.pdf?src-supplier=Digi-Key; ComponentLink2URL: http://www.sullinscorp.com/catalogs/78_Page80-81_HEADER_.100_2.54mm_FEMALE.pdf?src-supplier=Future+Electronics; ComponentLink2Description: http://www.sullinscorp.com/catalogs/78_Page80-81_HEADER_.100_2.54mm_FEMALE.pdf?src-supplier=Future+Electronics
pins: 1, 2, 3, 4, 5, 6

## PPTC062LFBN-RC
designator J?, comment 2x6 Header  (value not drawn)
Header Female 2x6 2.54mm; Manufacturer: Sullins; Manufacturer Part Number: PPTC062LFBN-RC; Number of Positions: 12; Connector Type: Header,Socket; Pitch: 0.1inch; Supplier 1: Digi-Key; Stock 1: 4618; Pricing 1: 1=0.79000, 10=0.69100, 100=0.59600, 500=0.48762, 1000=0.43344, 5000=0.39130 (USD); RoHS: Yes; Mount: Through Hole; Color: Black; Contact Plating: Tin; Contact Material: Bronze; Housing Material: Plastic; Package Quantity: 1000; Number of Rows: 2; Packaging: Bulk; Termination: Solder; Length: 15.7mm; Height: 8.5mm; Row Spacing: 0.1inch; Width: 5mm; Lead Free: Lead Free; ComponentLink1URL: https://media.digikey.com/pdf/Data%20Sheets/Sullins%20PDFs/Female_Headers.100_DS.pdf?src-supplier=Digi-Key; ComponentLink1Description: https://media.digikey.com/pdf/Data%20Sheets/Sullins%20PDFs/Female_Headers.100_DS.pdf?src-supplier=Digi-Key; ComponentLink2URL: http://www.sullinscorp.com/catalogs/78_Page80-81_HEADER_.100_2.54mm_FEMALE.pdf?src-supplier=Future+Electronics; ComponentLink2Description: http://www.sullinscorp.com/catalogs/78_Page80-81_HEADER_.100_2.54mm_FEMALE.pdf?src-supplier=Future+Electronics
footprint HEADER_2X6
pins: 1, 2, 3, 4, 5, 6, 7, 8, 9, 10, 11, 12

## PPTC081LFBN-RC
designator J?, comment 1x8 Header  (value not drawn)
Header Female 1x8 2.54mm; Manufacturer: Sullins; Manufacturer Part Number: PPTC081LFBN-RC; Number of Positions: 8; Connector Type: Header,Socket; Pitch: 0.1inch; Supplier 1: Future Electronics; Stock 1: 2015; Pricing 1: 1=0.59500, 100=0.42000, 300=0.39000, 1000=0.35500, 3000=0.32500 (USD); RoHS: Yes; Mount: Through Hole; Color: Black; Contact Plating: Tin; Contact Material: Bronze; Housing Material: Plastic; Package Quantity: 1000; Number of Rows: 1; Packaging: Bulk; Termination: Solder; Length: 20.8mm; Height: 8.5mm; Width: 2.5mm; Lead Free: Lead Free; ComponentLink1URL: https://media.digikey.com/pdf/Data%20Sheets/Sullins%20PDFs/Female_Headers.100_DS.pdf?src-supplier=Digi-Key; ComponentLink1Description: https://media.digikey.com/pdf/Data%20Sheets/Sullins%20PDFs/Female_Headers.100_DS.pdf?src-supplier=Digi-Key; ComponentLink2URL: http://www.sullinscorp.com/catalogs/78_Page80-81_HEADER_.100_2.54mm_FEMALE.pdf?src-supplier=Future+Electronics; ComponentLink2Description: http://www.sullinscorp.com/catalogs/78_Page80-81_HEADER_.100_2.54mm_FEMALE.pdf?src-supplier=Future+Electronics
footprint HEADER_1X8 (1x8 Female Header 2.54mm Pitch)
pins: 1, 2, 3, 4, 5, 6, 7, 8

## PPTC082LFBN-RC
designator J?, comment 2x8 Header  (value not drawn)
Header Female 2x8 2.54mm; Manufacturer: Sullins; Manufacturer Part Number: PPTC082LFBN-RC; Number of Positions: 16; Connector Type: Header,Socket; Pitch: 0.1inch; Supplier 1: Digi-Key; Stock 1: 5065; Pricing 1: 1=0.99000, 10=0.87000, 100=0.75040, 500=0.61398, 1000=0.54576, 5000=0.49270 (USD); RoHS: Yes; Mount: Through Hole; Color: Black; Contact Plating: Tin; Contact Material: Bronze; Housing Material: Plastic; Package Quantity: 1000; Number of Rows: 2; Packaging: Bulk; Termination: Solder; Length: 20.8mm; Height: 8.5mm; Row Spacing: 0.1inch; Width: 5mm; Lead Free: Lead Free; ComponentLink1URL: http://www.sullinscorp.com/catalogs/101_Page80-81_HEADER_.100_2.54mm_FEMALE.pdf?src-supplier=Future+Electronics; ComponentLink1Description: http://www.sullinscorp.com/catalogs/101_Page80-81_HEADER_.100_2.54mm_FEMALE.pdf?src-supplier=Future+Electronics; ComponentLink2URL: https://drawings-pdf.s3.amazonaws.com/10492.pdf?src-supplier=Digi-Key; ComponentLink2Description: https://drawings-pdf.s3.amazonaws.com/10492.pdf?src-supplier=Digi-Key
footprint HEADER_2x8
pins: 1, 2, 3, 4, 5, 6, 7, 8, 9, 10, 11, 12, 13, 14, 15, 16

## PREC003DAAN-RC
designator J?, comment 2x3 Header  (value not drawn)
Header Male 2x3 2.54mm
footprint HEADER_2X3
pins: 1, 2 4, 3 2, 4 5, 5 3, 6

## RC0402FR-071K5L
designator R?, comment 1.5k
Resistor 1.5kOhm 0402 SMD; Manufacturer: Yageo; Manufacturer Part Number: RC0402FR-071K5L; Resistance: 1.5kR; Power Rating: 62.5mW; Tolerance: 1%; Voltage Rating: 50V; Temperature Coefficient: 100ppm/°C; Max Power Dissipation: 63mW; Supplier 1: Digi-Key; Stock 1: 9153842; Pricing 1: 1=0.10000, 10=0.01600, 100=0.00670, 1000=0.00301, 2500=0.00261, 5000=0.00215 (USD); RoHS: Yes; Case/Package: 0402; Case Code (Metric): 1005; Case Code (Imperial): 0402; Min Operating Temperature: -55°C; Max Operating Temperature: 155°C; Composition: Thick Film; Package Quantity: 1; Packaging: Tape and Reel; Number of Terminations: 2; Termination: SMD/SMT; Military Standard: Not; Features: Moisture Resistant; Length: 1mm; Height: 0.016inch; Width: 0.02inch; Depth: 0.5mm; REACH SVHC: No SVHC; Lead Free: Lead Free; ComponentLink1URL: https://datasheet.ciiva.com/11808/0900766b80c66297-11808238.pdf?src-supplier=RSComponents; ComponentLink1Description: https://datasheet.ciiva.com/11808/0900766b80c66297-11808238.pdf?src-supplier=RSComponents; ComponentLink2URL: https://datasheet.ciiva.com/2453/pyu-r-int-thick-7-2453440.pdf?src-supplier=Digi-Key; ComponentLink2Description: https://datasheet.ciiva.com/2453/pyu-r-int-thick-7-2453440.pdf?src-supplier=Digi-Key; ComponentLink3URL: https://datasheet.ciiva.com/2453/pyu-r-int-thick-7-2453441.pdf?src-supplier=Digi-Key; ComponentLink3Description: https://datasheet.ciiva.com/2453/pyu-r-int-thick-7-2453441.pdf?src-supplier=Digi-Key; ComponentLink4URL: https://datasheet.ciiva.com/46394/1018594-46394950.pdf?src-supplier=Element14; ComponentLink4Description: https://datasheet.ciiva.com/46394/1018594-46394950.pdf?src-supplier=Element14; ComponentLink5URL: https://datasheet.ciiva.com/7849/1018594-7849863.pdf?src-supplier=Element14; ComponentLink5Description: https://datasheet.ciiva.com/7849/1018594-7849863.pdf?src-supplier=Element14; ComponentLink6URL: https://datasheet.ciiva.com/7849/1018594-7849864.pdf?src-supplier=Element14; ComponentLink6Description: https://datasheet.ciiva.com/7849/1018594-7849864.pdf?src-supplier=Element14; ComponentLink7URL: https://datasheet.ciiva.com/15189/getdatasheetpartid-323992-15189370.pdf?src-supplier=Verical; ComponentLink7Description: https://datasheet.ciiva.com/15189/getdatasheetpartid-323992-15189370.pdf?src-supplier=Verical; ComponentLink8URL: https://datasheet.ciiva.com/12558/pyu-rc0402-51-rohs-l-6-r-8721-12558542.pdf?src-supplier=Mouser; ComponentLink8Description: https://datasheet.ciiva.com/12558/pyu-rc0402-51-rohs-l-6-r-8721-12558542.pdf?src-supplier=Mouser; ComponentLink9URL: https://datasheet.ciiva.com/2453/pyu-r-int-thick-7-2453439.pdf?src-supplier=Digi-Key; ComponentLink9Description: https://datasheet.ciiva.com/2453/pyu-r-int-thick-7-2453439.pdf?src-supplier=Digi-Key
footprint RES0402 (Chip Resistor, 2-Leads, Body 1.00x0.50mm, IPC Medium Density)
pins: 1, 2

## RC0402FR-071KL
designator R?, comment 1k
Resistor 1kOhm 0402 SMD; Manufacturer: Yageo; Manufacturer Part Number: RC0402FR-071KL; Tolerance: 1%; Resistance: 1kR; Temperature Coefficient: 100ppm/°C; Voltage Rating (DC): 50V; Power Rating: 62.5mW; Supplier 1: Digi-Key; Stock 1: 60632232; Pricing 1: 1=0.10000, 10=0.01600, 100=0.00670, 1000=0.00301, 2500=0.00261, 5000=0.00215 (USD); RoHS: Yes; Case/Package: 0402; Number of Pins: 2; Case Code (Imperial): 0402; Case Code (Metric): 1005; Min Operating Temperature: -55°C; Max Operating Temperature: 155°C; Composition: Thick Film; Packaging: Tape and Reel; Voltage Rating: 50V; Termination: SMD/SMT; Military Standard: Not; Length: 1mm; Height: 0.32mm; Width: 0.5mm; Depth: 0.5mm; REACH SVHC: Unknown; Lead Free: Lead Free; ComponentLink1URL: https://datasheet.ciiva.com/11819/0900766b80c66297-11819477.pdf?src-supplier=RSComponents; ComponentLink1Description: https://datasheet.ciiva.com/11819/0900766b80c66297-11819477.pdf?src-supplier=RSComponents; ComponentLink2URL: https://datasheet.ciiva.com/12666/pyu-rc0402-51-rohs-l-6-r-12666741.pdf?src-supplier=Mouser; ComponentLink2Description: https://datasheet.ciiva.com/12666/pyu-rc0402-51-rohs-l-6-r-12666741.pdf?src-supplier=Mouser; ComponentLink3URL: https://datasheet.ciiva.com/17063/pyu-rc0402-51-rohs-l-6-r-17063193.pdf?src-supplier=Future+Electronics; ComponentLink3Description: https://datasheet.ciiva.com/17063/pyu-rc0402-51-rohs-l-6-r-17063193.pdf?src-supplier=Future+Electronics; ComponentLink4URL: https://datasheet.ciiva.com/22747/1018594-22747513.pdf?src-supplier=Element14; ComponentLink4Description: https://datasheet.ciiva.com/22747/1018594-22747513.pdf?src-supplier=Element14; ComponentLink5URL: https://datasheet.ciiva.com/7849/1018594-7849869.pdf?src-supplier=Element14; ComponentLink5Description: https://datasheet.ciiva.com/7849/1018594-7849869.pdf?src-supplier=Element14; ComponentLink6URL: https://datasheet.ciiva.com/7983/1018594-7983502.pdf?src-supplier=Element14; ComponentLink6Description: https://datasheet.ciiva.com/7983/1018594-7983502.pdf?src-supplier=Element14; ComponentLink7URL: https://datasheet.ciiva.com/7849/1018594-7849871.pdf?src-supplier=Element14; ComponentLink7Description: https://datasheet.ciiva.com/7849/1018594-7849871.pdf?src-supplier=Element14
footprint RES0402 (Chip Resistor, 2-Leads, Body 1.00x0.50mm, IPC Medium Density)
pins: 1, 2

## RC0402FR-071ML
designator R?, comment 1M
Resistor 1MOhm 0402 SMD; Manufacturer: Yageo; Manufacturer Part Number: RC0402FR-071ML; Resistance: 1MR; Tolerance: 1%; Power Rating: 63mW; Voltage Rating: 50V; Temperature Coefficient: 100ppm/°C; Supplier 1: Digi-Key; Stock 1: 12663284; Pricing 1: 1=0.10000, 10=0.01500, 100=0.00620, 1000=0.00278, 2500=0.00242, 5000=0.00200 (USD); RoHS: Yes; Case/Package: 0402; Case Code (Imperial): 0402; Case Code (Metric): 1005; Min Operating Temperature: -55°C; Max Operating Temperature: 155°C; Composition: Thick Film; Packaging: Tape and Reel; Termination: SMD/SMT; Military Standard: Not; Length: 1mm; Height: 0.32mm; Depth: 0.5mm; REACH SVHC: Unknown; Lead Free: Lead Free; ComponentLink1URL: https://datasheet.ciiva.com/11808/0900766b80c66297-11808125.pdf?src-supplier=RSComponents; ComponentLink1Description: https://datasheet.ciiva.com/11808/0900766b80c66297-11808125.pdf?src-supplier=RSComponents; ComponentLink2URL: https://datasheet.ciiva.com/16741/pyu-rc0402-51-rohs-l-6-r-16741081.pdf?src-supplier=Future+Electronics; ComponentLink2Description: https://datasheet.ciiva.com/16741/pyu-rc0402-51-rohs-l-6-r-16741081.pdf?src-supplier=Future+Electronics; ComponentLink3URL: https://datasheet.ciiva.com/46394/1018594-46394951.pdf?src-supplier=Element14; ComponentLink3Description: https://datasheet.ciiva.com/46394/1018594-46394951.pdf?src-supplier=Element14; ComponentLink4URL: https://datasheet.ciiva.com/7849/1018594-7849882.pdf?src-supplier=Element14; ComponentLink4Description: https://datasheet.ciiva.com/7849/1018594-7849882.pdf?src-supplier=Element14; ComponentLink5URL: https://datasheet.ciiva.com/7849/1018594-7849883.pdf?src-supplier=Element14; ComponentLink5Description: https://datasheet.ciiva.com/7849/1018594-7849883.pdf?src-supplier=Element14
footprint RES0402 (Chip Resistor, 2-Leads, Body 1.00x0.50mm, IPC Medium Density)
pins: 1, 2

## RC0402FR-072K2L
designator R?, comment 2.2k
Resistor 2.2kOhm 0402 SMD; Manufacturer: Yageo; Manufacturer Part Number: RC0402FR-072K2L; Resistance: 2.2kR; Tolerance: 1%; Power Rating: 63mW; Voltage Rating: 50V; Temperature Coefficient: 100ppm/°C; Supplier 1: Digi-Key; Stock 1: 12789871; Pricing 1: 1=0.10000, 10=0.01600, 100=0.00670, 1000=0.00301, 2500=0.00261, 5000=0.00215 (USD); RoHS: Yes; Case/Package: 0402; Weight: 2.3E-05oz; Case Code (Imperial): 0402; Case Code (Metric): 1005; Min Operating Temperature: -55°C; Max Operating Temperature: 155°C; Composition: Thick Film; Packaging: Tape and Reel; Termination: SMD/SMT; Military Standard: Not; Length: 1mm; Height: 0.35mm; Width: 0.5mm; Depth: 0.5mm; REACH SVHC: Unknown; Lead Free: Lead Free; ComponentLink1URL: https://datasheet.ciiva.com/11808/0900766b80c66297-11808786.pdf?src-supplier=RSComponents; ComponentLink1Description: https://datasheet.ciiva.com/11808/0900766b80c66297-11808786.pdf?src-supplier=RSComponents; ComponentLink2URL: https://datasheet.ciiva.com/12577/pyu-rc0402-51-rohs-l-6-r-12577429.pdf?src-supplier=Mouser; ComponentLink2Description: https://datasheet.ciiva.com/12577/pyu-rc0402-51-rohs-l-6-r-12577429.pdf?src-supplier=Mouser; ComponentLink3URL: https://datasheet.ciiva.com/16741/pyu-rc0402-51-rohs-l-6-r-16741015.pdf?src-supplier=Future+Electronics; ComponentLink3Description: https://datasheet.ciiva.com/16741/pyu-rc0402-51-rohs-l-6-r-16741015.pdf?src-supplier=Future+Electronics; ComponentLink4URL: https://datasheet.ciiva.com/46383/1018594-46383563.pdf?src-supplier=Element14; ComponentLink4Description: https://datasheet.ciiva.com/46383/1018594-46383563.pdf?src-supplier=Element14; ComponentLink5URL: https://datasheet.ciiva.com/7849/1018594-7849928.pdf?src-supplier=Element14; ComponentLink5Description: https://datasheet.ciiva.com/7849/1018594-7849928.pdf?src-supplier=Element14; ComponentLink6URL: https://datasheet.ciiva.com/7849/1018594-7849929.pdf?src-supplier=Element14; ComponentLink6Description: https://datasheet.ciiva.com/7849/1018594-7849929.pdf?src-supplier=Element14; ComponentLink7URL: https://datasheet.ciiva.com/7983/1018594-7983515.pdf?src-supplier=Element14; ComponentLink7Description: https://datasheet.ciiva.com/7983/1018594-7983515.pdf?src-supplier=Element14
footprint RES0402 (Chip Resistor, 2-Leads, Body 1.00x0.50mm, IPC Medium Density)
pins: 1, 2

## RC0402FR-072K32L
designator R?, comment 2.32k
Resistor 2.32kOhm 0402 SMD; Manufacturer: Yageo; Manufacturer Part Number: RC0402FR-072K32L; Resistance: 2.32kR; Tolerance: 1%; Temperature Coefficient: 100ppm/°C; Power Rating: 62.5mW; Voltage Rating: 50V; Max Power Dissipation: 63mW; Supplier 1: Digi-Key; Stock 1: 522393; Pricing 1: 1=0.10000, 10=0.01600, 100=0.00670, 1000=0.00301, 2500=0.00261, 5000=0.00215 (USD); RoHS: Yes; Case/Package: 0402; Contact Plating: Tin,Matte; Case Code (Imperial): 0402; Case Code (Metric): 1005; Min Operating Temperature: -55°C; Max Operating Temperature: 155°C; Composition: Thick Film; Packaging: Tape and Reel; Number of Terminations: 2; Termination: SMD/SMT; Military Standard: Not; Features: Moisture Resistant; Length: 1mm; Height: 0.016inch; Width: 0.02inch; Depth: 0.5mm; ComponentLink1URL: https://datasheet.ciiva.com/8894/pyu-rc0402-51-rohs-l-6-8894485.pdf?src-supplier=Avnet; ComponentLink1Description: https://datasheet.ciiva.com/8894/pyu-rc0402-51-rohs-l-6-8894485.pdf?src-supplier=Avnet; ComponentLink2URL: https://datasheet.ciiva.com/12560/pyu-rc0402-51-rohs-l-6-r-8721-12560570.pdf?src-supplier=Mouser; ComponentLink2Description: https://datasheet.ciiva.com/12560/pyu-rc0402-51-rohs-l-6-r-8721-12560570.pdf?src-supplier=Mouser; ComponentLink3URL: https://datasheet.ciiva.com/28415/pyu-rc0402-51-rohs-l-6-28415007.pdf?src-supplier=Avnet+Europe; ComponentLink3Description: https://datasheet.ciiva.com/28415/pyu-rc0402-51-rohs-l-6-28415007.pdf?src-supplier=Avnet+Europe
footprint RES0402 (Chip Resistor, 2-Leads, Body 1.00x0.50mm, IPC Medium Density)
pins: 1, 2